# Altium schematic symbol library UVICHybridLibrary.SchLib: 132 symbols
Pins are listed as number, name and electrical type; pins without a type are passive.

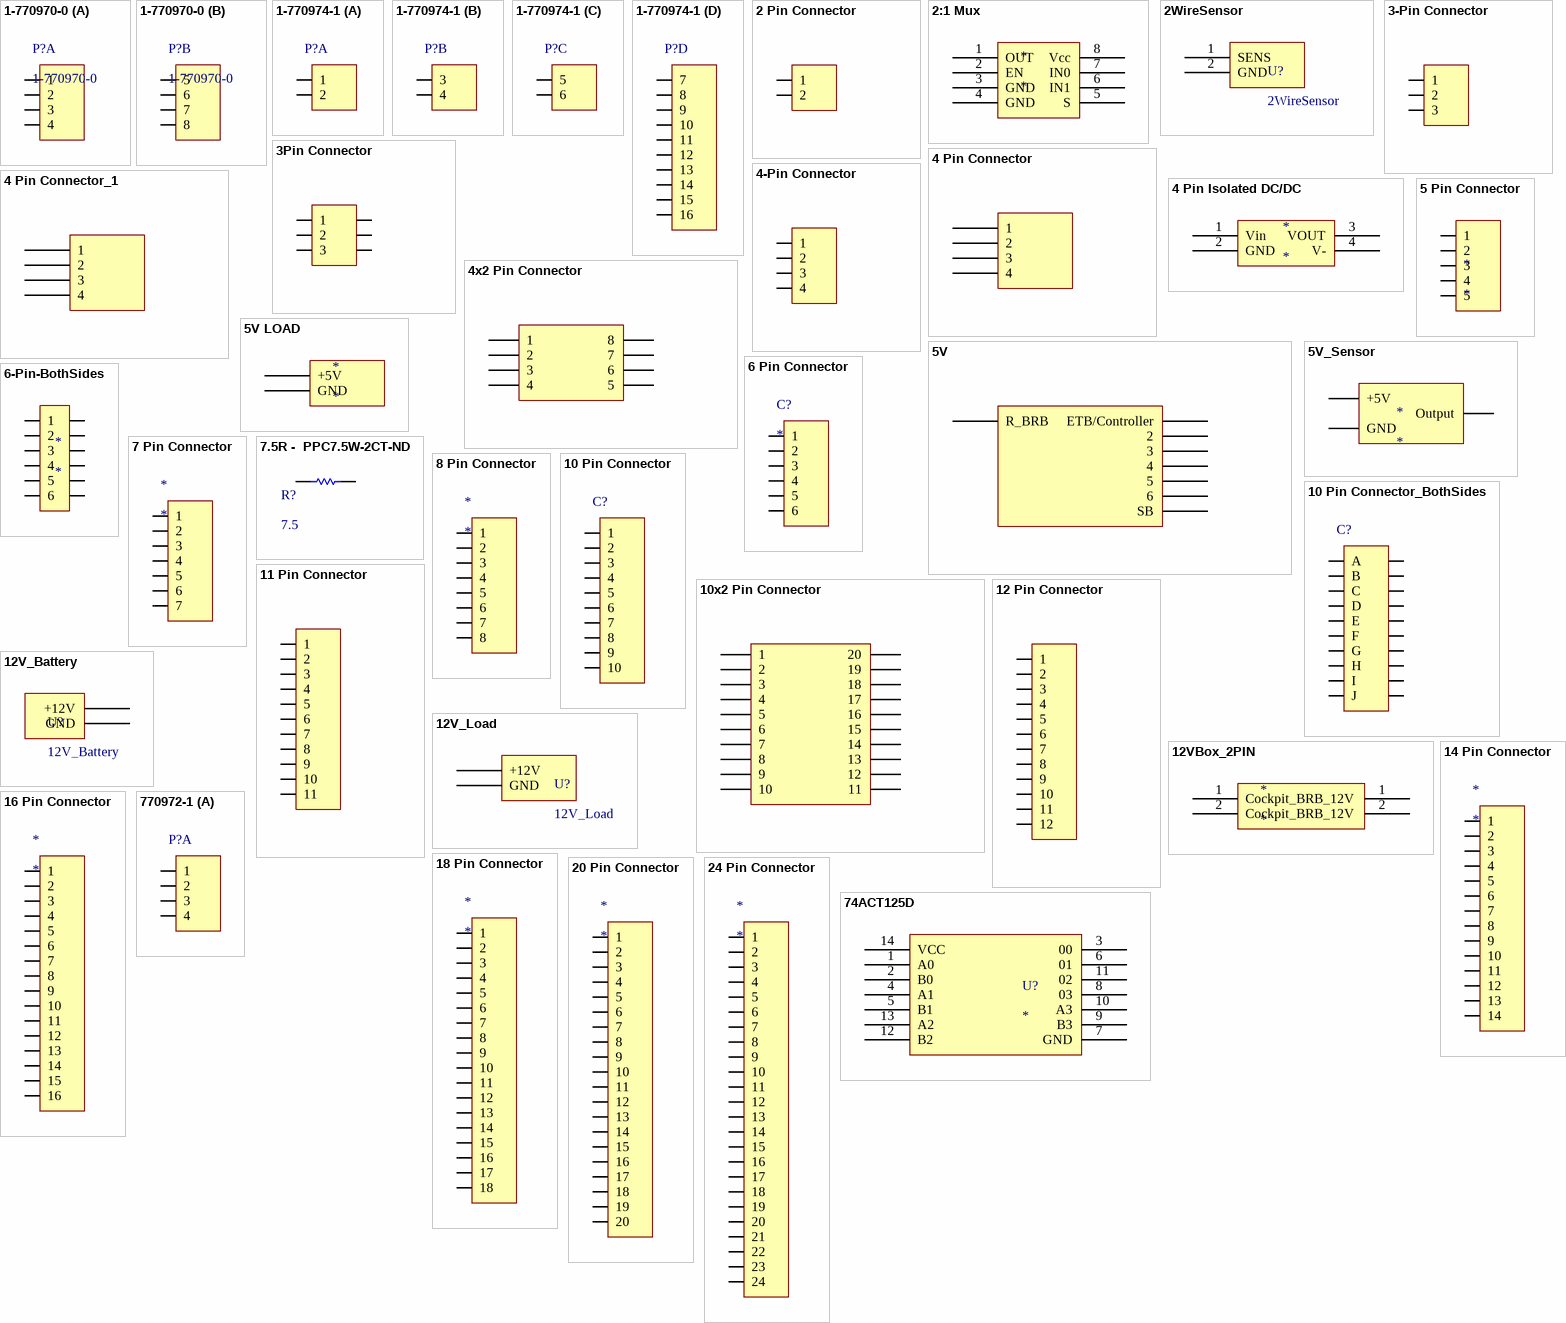
[diagram p0: symbols 1-770970-0 to 770972-1]

## 1-770970-0
designator P?
TE Connectivity Right Angle, 8-Pin, Mini-U MATE-N-LOK
part A pins: 1, 2, 3, 4
part B pins: 5, 6, 7, 8

## 1-770974-1
designator P?  (value not drawn)
TE, 16-Pin Right-Angle, Mini-U, MATE-N-LOK
part A pins: 1, 2
part B pins: 3, 4
part C pins: 5, 6
part D pins: 7, 8, 9, 10, 11, 12, 13, 14, 15, 16

## 2 Pin Connector
designator C?
ComponentLink1Description: Manufacturer Link
pins: 1, 2
1 alternate drawing of the same symbol

## 2:1 Mux
designator *
pins: 1 OUT, 2 EN, 3 GND, 4 GND, 5 S, 6 IN1, 7 IN0, 8 Vcc

## 2WireSensor
designator U?
pins: 1 SENS, 2 GND

## 3-Pin Connector
designator P?
pins: 0 1, 1 2, 2 3

## 3Pin Connector
designator C?
Capacitor; Published: 8-Jun-2000; LatestRevisionDate: 17-Jul-2002; LatestRevisionNote: Re-released for DXP Platform.; PackageReference: RAD-0.3; Publisher: Altium Limited; PackageDescription: Radial Cap, Thru-Hole; 2 Leads; 0.3 in Pin Spacing
footprint RAD-0.3 (Footprint not found)
simulation model CAP (Capacitor)
signal-integrity model Cap
pins: 1, 1, 2, 2, 3, 3

## 4 Pin Connector
designator C?
Capacitor; Published: 8-Jun-2000; LatestRevisionDate: 17-Jul-2002; LatestRevisionNote: Re-released for DXP Platform.; PackageReference: RAD-0.3; Publisher: Altium Limited; PackageDescription: Radial Cap, Thru-Hole; 2 Leads; 0.3 in Pin Spacing
footprint RAD-0.3 (Footprint not found)
simulation model CAP (Capacitor)
signal-integrity model Cap
pins: 1, 2, 3, 4

## 4 Pin Connector_1
designator C?
ETB Controller 200mil 4pin connector; Published: 8-Jun-2000; LatestRevisionDate: 17-Jul-2002; LatestRevisionNote: Re-released for DXP Platform.; PackageReference: RAD-0.3; Publisher: Altium Limited; PackageDescription: Radial Cap, Thru-Hole; 2 Leads; 0.3 in Pin Spacing
pins: 1, 2, 3, 4

## 4 Pin Isolated DC/DC
designator *
pins: 1 Vin, 2 GND, 3 VOUT, 4 V-

## 4-Pin Connector
designator P?
pins: 1, 2, 3, 4

## 4x2 Pin Connector
designator C?, comment Cap
Capacitor; Published: 8-Jun-2000; LatestRevisionDate: 17-Jul-2002; LatestRevisionNote: Re-released for DXP Platform.; PackageReference: RAD-0.3; Publisher: Altium Limited; PackageDescription: Radial Cap, Thru-Hole; 2 Leads; 0.3 in Pin Spacing
footprint RAD-0.3 (Radial Cap, Thru-Hole; 2 Leads; 0.3 in Pin Spacing)
simulation model CAP (Capacitor)
signal-integrity model Cap
pins: 1, 2, 3, 4, 5, 6, 7, 8

## 5 Pin Connector
designator *
pins: 1, 2, 3, 4, 5

## 5V
designator C?, comment Cap  value 100pF
Capacitor; Published: 8-Jun-2000; LatestRevisionDate: 17-Jul-2002; LatestRevisionNote: Re-released for DXP Platform.; PackageReference: RAD-0.3; Publisher: Altium Limited; PackageDescription: Radial Cap, Thru-Hole; 2 Leads; 0.3 in Pin Spacing
footprint RAD-0.3 (Radial Cap, Thru-Hole; 2 Leads; 0.3 in Pin Spacing)
simulation model CAP (Capacitor)
signal-integrity model Cap
pins: 0 R_BRB, 1 ETB/Controller, 2, 3, 4, 5, 6, 7 SB

## 5V LOAD
designator *
pins: 1 +5V, 2 GND

## 5V_Sensor
designator *
pins: 1 +5V, 2 GND, 3 Output

## 6 Pin Connector
designator C?
pins: 1, 2, 3, 4, 5, 6

## 6-Pin-BothSides
designator *
pins: 1, 2, 3, 4, 5, 6, 7, 8, 9, 10, 11, 12

## 7 Pin Connector
designator *
pins: 1, 2, 3, 4, 5, 6, 7

## 7.5R -  PPC7.5W-2CT-ND
designator R?, comment 7.5
footprint 7.5R - PPC7.5W-2CT-ND
pins: 1, 2

## 8 Pin Connector
designator *
pins: 1, 2, 3, 4, 5, 6, 7, 8

## 10 Pin Connector
designator C?  (value not drawn)
pins: 1, 2, 3, 4, 5, 6, 7, 8, 9, 10

## 10 Pin Connector_BothSides
designator C?  (value not drawn)
pins: 1 A, 1, 2 B, 2, 3 C, 3, 4 D, 4, 5 E, 5, 6 F, 6, 7 G, 7, 8 H, 8, 9 I, 9, 10 J, 10

## 10x2 Pin Connector
designator C?, comment Cap  value 100pF
Capacitor; Published: 8-Jun-2000; LatestRevisionDate: 17-Jul-2002; LatestRevisionNote: Re-released for DXP Platform.; PackageReference: RAD-0.3; Publisher: Altium Limited; PackageDescription: Radial Cap, Thru-Hole; 2 Leads; 0.3 in Pin Spacing
footprint RAD-0.3 (Radial Cap, Thru-Hole; 2 Leads; 0.3 in Pin Spacing)
simulation model CAP (Capacitor)
signal-integrity model Cap
pins: 1, 2, 3, 4, 5, 6, 7, 8, 9, 10, 11, 12, 13, 14, 15, 16, 17, 18, 19, 20

## 11 Pin Connector
designator C?
ComponentLink1Description: Manufacturer Link; ComponentLink2Description: Datasheet
pins: 1, 2, 3, 4, 5, 6, 7, 8, 9, 10, 11
1 alternate drawing of the same symbol

## 12 Pin Connector
designator P?
pins: ?1 1, ?2 2, ?3 3, ?4 4, ?5 5, ?6 6, ?7 7, ?8 8, ?9 9, ?10 10, ?11 11, ?12 12

## 12V_Battery
designator U?
pins: 1 +12V, 2 GND

## 12V_Load
designator U?
pins: 1 +12V, 2 GND

## 12VBox_2PIN
designator *
pins: 1 Cockpit_BRB_12V, 1 Cockpit_BRB_12V, 2 Cockpit_BRB_12V, 2 NC

## 14 Pin Connector
designator *
pins: 1, 2, 3, 4, 5, 6, 7, 8, 9, 10, 11, 12, 13, 14

## 16 Pin Connector
designator *
pins: 1, 2, 3, 4, 5, 6, 7, 8, 9, 10, 11, 12, 13, 14, 15, 16

## 18 Pin Connector
designator *
pins: 1, 2, 3, 4, 5, 6, 7, 8, 9, 10, 11, 12, 13, 14, 15, 16, 17, 18

## 20 Pin Connector
designator *
pins: 1, 2, 3, 4, 5, 6, 7, 8, 9, 10, 11, 12, 13, 14, 15, 16, 17, 18, 19, 20

## 24 Pin Connector
designator *
pins: 1, 2, 3, 4, 5, 6, 7, 8, 9, 10, 11, 12, 13, 14, 15, 16, 17, 18, 19, 20, 21, 22, 23, 24

## 74ACT125D
designator U?
pins: 1 A0, 2 B0, 3 00, 4 A1, 5 B1, 6 01, 7 GND, 8 03, 9 B3, 10 A3, 11 02, 12 B2, 13 A2, 14 VCC

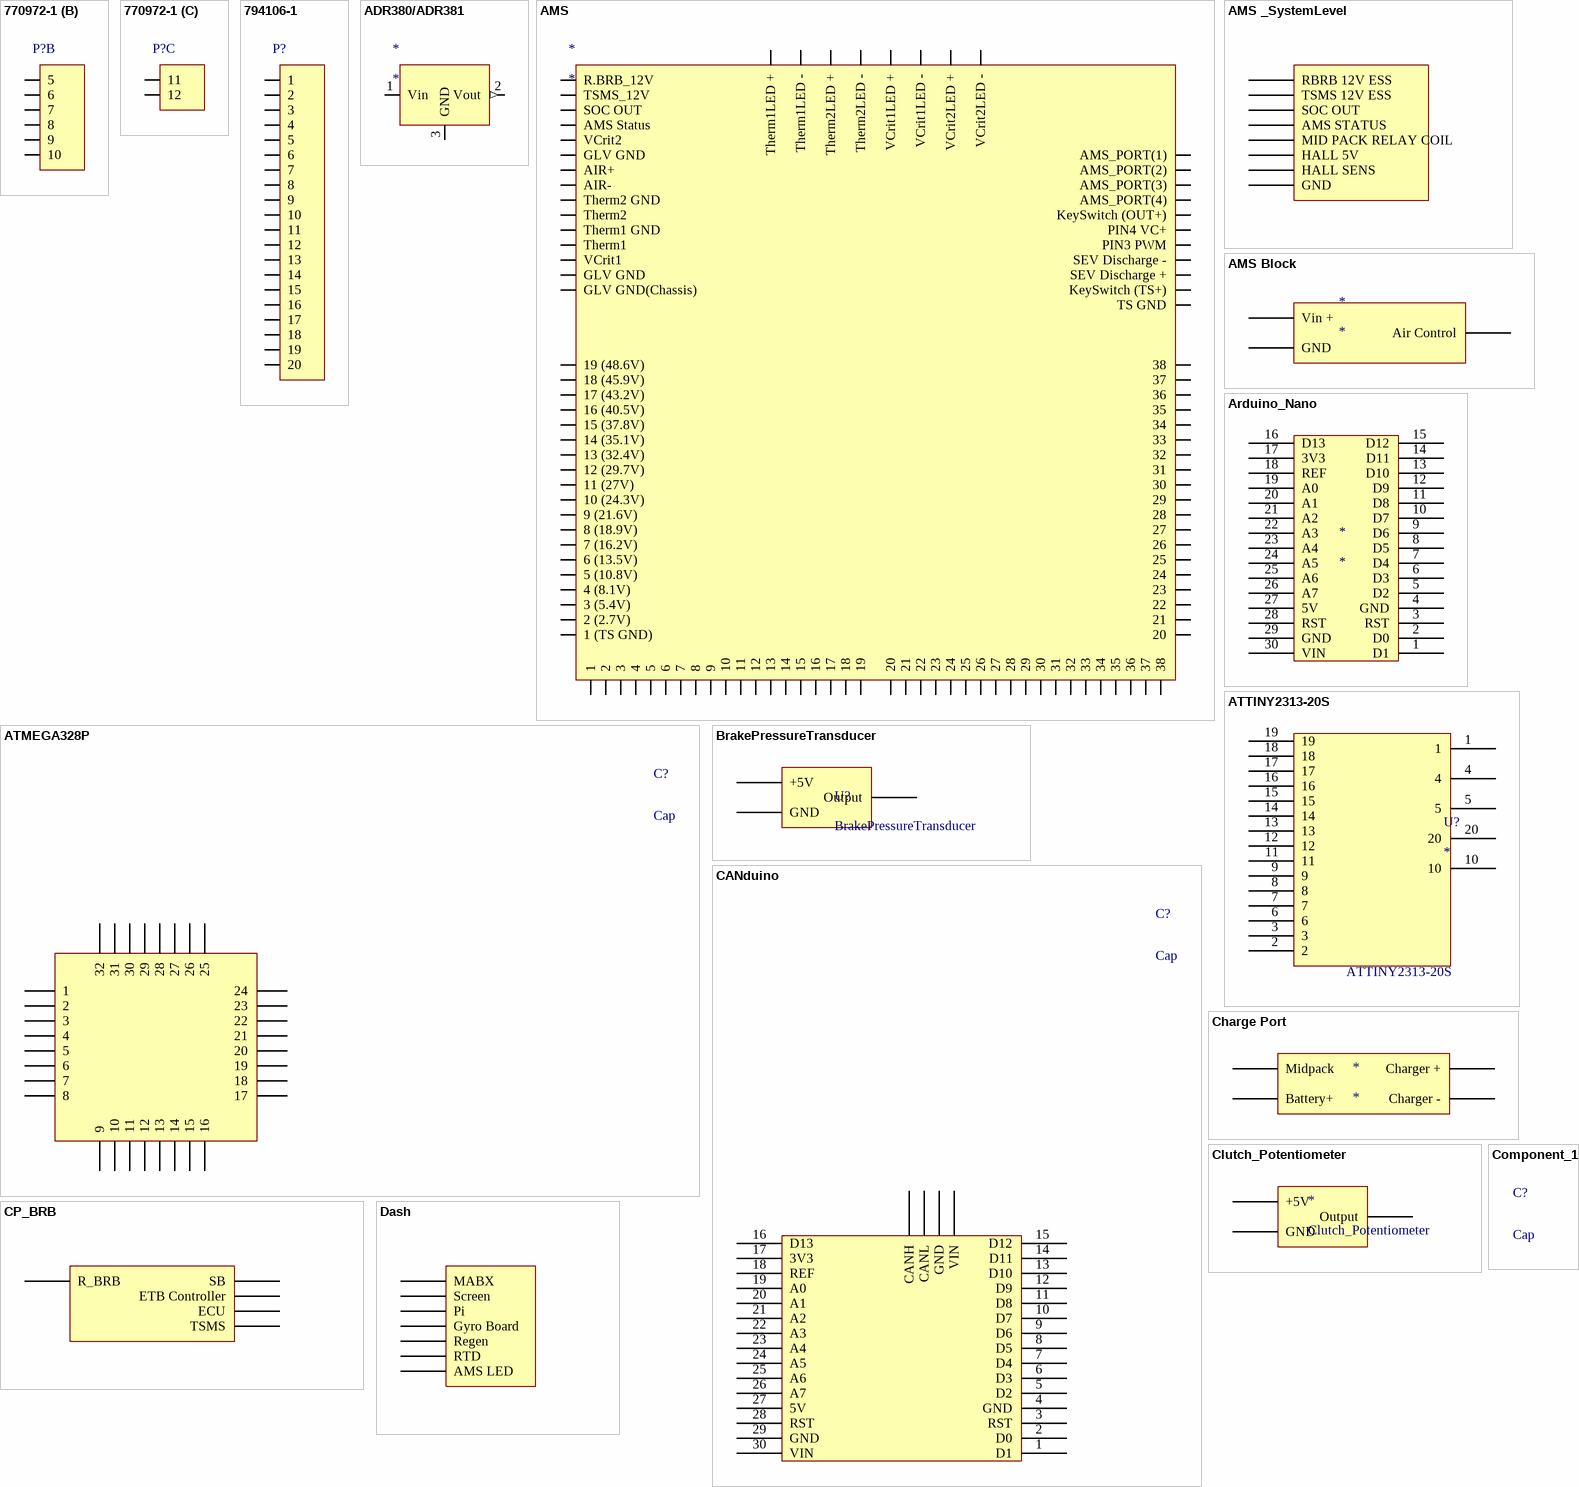
[diagram p1: symbols 770972-1 to Dash]

## 770972-1
designator P?  (value not drawn)
TE Connectivity Right Angle Mini-U MATE-N-LOK
part A pins: 1, 2, 3, 4
part B pins: 5, 6, 7, 8, 9, 10
part C pins: 11, 12

## 794106-1
designator P?  (value not drawn)
TE Connectivity Right Angle Mini-U MATE-N-LOK
pins: 1, 2, 3, 4, 5, 6, 7, 8, 9, 10, 11, 12, 13, 14, 15, 16, 17, 18, 19, 20

## ADR380/ADR381
designator *
pins: 1 Vin (power), 2 Vout (out), 3 GND (power)

## AMS
designator *
pins: 1 1 (TS GND), 2 2 (2.7V), 3 3 (5.4V), 4 4 (8.1V), 5 5 (10.8V), 6 6 (13.5V), 7 7 (16.2V), 8 8 (18.9V), 9 9 (21.6V), 10 10 (24.3V), 11 11 (27V), 12 12 (29.7V), 13 13 (32.4V), 14 14 (35.1V), 15 15 (37.8V), 16 16 (40.5V), 17 17 (43.2V), 18 18 (45.9V), 19 19 (48.6V), 20, 21, 22, 23, 24, 25, 26, 27, 28, 29, 30, 31, 32, 33, 34, 35, 36, 37, 38, 39 SEV Discharge +, 40 SEV Discharge -, 41 PIN4 VC+, ?1 1, ?2 2, ?3 3, ?4 4, ?5 5, ?6 6, ?7 7, ?8 8, ?9 9, ?10 10, ?11 11, ?12 12, ?13 13, ?14 14, ?15 15, ?16 16, ?17 17, ?18 18, ?19 19, ?20 20, ?21 21, ?22 22, ?23 23, ?24 24, ?25 25, ?26 26, ?27 27, ?28 28, ?29 29, ?30 30, ?31 31, ?32 32, ?33 33, ?34 34, ?35 35, ?36 36, ?37 37, ?38 38, ?39 R.BRB_12V, ?40 TSMS_12V, ?41 VCrit1, ?42 VCrit2, ?43 Therm1, ?44 Therm2, ?45 AIR-, ?46 AIR+, ?47 Therm1 GND, ?48 Therm2 GND, ?49 GLV GND, ?50 KeySwitch (OUT+), ?51 PIN3 PWM, ?52 SOC OUT, ?53 GLV GND, ?54 GLV GND(Chassis), ?55 AMS_PORT(1), ?56 AMS_PORT(2), ?57 AMS_PORT(3), ?58 AMS_PORT(4), ?59 Therm1LED +, ?60 Therm1LED -, ?61 Therm2LED +, ?62 Therm2LED -, ?63 VCrit1LED +, ?64 VCrit1LED -, ?65 VCrit2LED +, ?66 VCrit2LED -, ?67 AMS Status, ?68 TS GND, ?69 KeySwitch (TS+)

## AMS _SystemLevel
designator C?
Published: 8-Jun-2000; LatestRevisionDate: 17-Jul-2002; LatestRevisionNote: Re-released for DXP Platform.; PackageReference: RAD-0.3; Publisher: Altium Limited
pins: 0 AMS STATUS, 1 MID PACK RELAY COIL, 1 HALL 5V, 2 SOC OUT, 3 RBRB 12V ESS, 4 HALL SENS, 5 GND, ?1 TSMS 12V ESS

## AMS Block
designator *
pins: 23 Vin +, 24 GND, 25 Air Control

## Arduino_Nano
designator *
pins: 1 D1, 2 D0, 3 RST, 4 GND, 5 D2, 6 D3, 7 D4, 8 D5, 9 D6, 10 D7, 11 D8, 12 D9, 13 D10, 14 D11, 15 D12, 16 D13, 17 3V3, 18 REF, 19 A0, 20 A1, 21 A2, 22 A3, 23 A4, 24 A5, 25 A6, 26 A7, 27 5V, 28 RST, 29 GND, 30 VIN

## ATMEGA328P
designator C?, comment Cap
Capacitor; Published: 8-Jun-2000; LatestRevisionDate: 17-Jul-2002; LatestRevisionNote: Re-released for DXP Platform.; PackageReference: RAD-0.3; Publisher: Altium Limited; PackageDescription: Radial Cap, Thru-Hole; 2 Leads; 0.3 in Pin Spacing
footprint RAD-0.3 (Radial Cap, Thru-Hole; 2 Leads; 0.3 in Pin Spacing)
simulation model CAP (Capacitor)
signal-integrity model Cap
pins: 1, 2, 3, 4, 5, 6, 7, 8, 9, 10, 11, 12, 13, 14, 15, 16, 17, 18, 19, 20, 21, 22, 23, 24, 25, 26, 27, 28, 29, 30, 31, 32

## ATTINY2313-20S
designator U?
ATTINY
pins: 1, 2, 3, 4, 5, 6, 7, 8, 9, 10, 11, 12, 13, 14, 15, 16, 17, 18, 19, 20

## BrakePressureTransducer
designator U?
pins: 1 +5V, 2 GND, 3 Output

## CANduino
designator C?, comment Cap
Capacitor; Published: 8-Jun-2000; LatestRevisionDate: 17-Jul-2002; LatestRevisionNote: Re-released for DXP Platform.; PackageReference: RAD-0.3; Publisher: Altium Limited; PackageDescription: Radial Cap, Thru-Hole; 2 Leads; 0.3 in Pin Spacing
footprint RAD-0.3 (Radial Cap, Thru-Hole; 2 Leads; 0.3 in Pin Spacing)
simulation model CAP (Capacitor)
signal-integrity model Cap
pins: 1 D1, 2 D0, 3 RST, 4 GND, 5 D2, 6 D3, 7 D4, 8 D5, 9 D6, 10 D7, 11 D8, 12 D9, 13 D10, 14 D11, 15 D12, 16 D13, 17 3V3, 18 REF, 19 A0, 20 A1, 21 A2, 22 A3, 23 A4, 24 A5, 25 A6, 26 A7, 27 5V, 28 RST, 29 GND, 30 VIN, 31 VIN, 32 GND, 33 CANL, 34 CANH

## Charge Port
designator *
pins: 5 Midpack, 5 Battery+, 6 Charger +, 7 Charger -

## Clutch_Potentiometer
designator *
pins: 1 +5V, 2 GND, 3 Output

## Component_1
designator C?, comment Cap
Capacitor; Published: 8-Jun-2000; LatestRevisionDate: 17-Jul-2002; LatestRevisionNote: Re-released for DXP Platform.; PackageReference: RAD-0.3; Publisher: Altium Limited; PackageDescription: Radial Cap, Thru-Hole; 2 Leads; 0.3 in Pin Spacing
footprint RAD-0.3 (Radial Cap, Thru-Hole; 2 Leads; 0.3 in Pin Spacing)
simulation model CAP (Capacitor)
signal-integrity model Cap

## CP_BRB
designator C?, comment Cap  value 100pF
Capacitor; Published: 8-Jun-2000; LatestRevisionDate: 17-Jul-2002; LatestRevisionNote: Re-released for DXP Platform.; PackageReference: RAD-0.3; Publisher: Altium Limited; PackageDescription: Radial Cap, Thru-Hole; 2 Leads; 0.3 in Pin Spacing
footprint RAD-0.3 (Radial Cap, Thru-Hole; 2 Leads; 0.3 in Pin Spacing)
simulation model CAP (Capacitor)
signal-integrity model Cap
pins: 0 R_BRB, 1 SB, 2 ECU, 3 TSMS, 4 ETB Controller

## Dash
designator C?, comment Cap  value 100pF
Capacitor; Published: 8-Jun-2000; LatestRevisionDate: 17-Jul-2002; LatestRevisionNote: Re-released for DXP Platform.; PackageReference: RAD-0.3; Publisher: Altium Limited; PackageDescription: Radial Cap, Thru-Hole; 2 Leads; 0.3 in Pin Spacing
footprint RAD-0.3 (Radial Cap, Thru-Hole; 2 Leads; 0.3 in Pin Spacing)
simulation model CAP (Capacitor)
signal-integrity model Cap
pins: 0 MABX, 2 Pi, 3 Gyro Board, 4 Regen, 5 RTD, 6 AMS LED, ?1 Screen

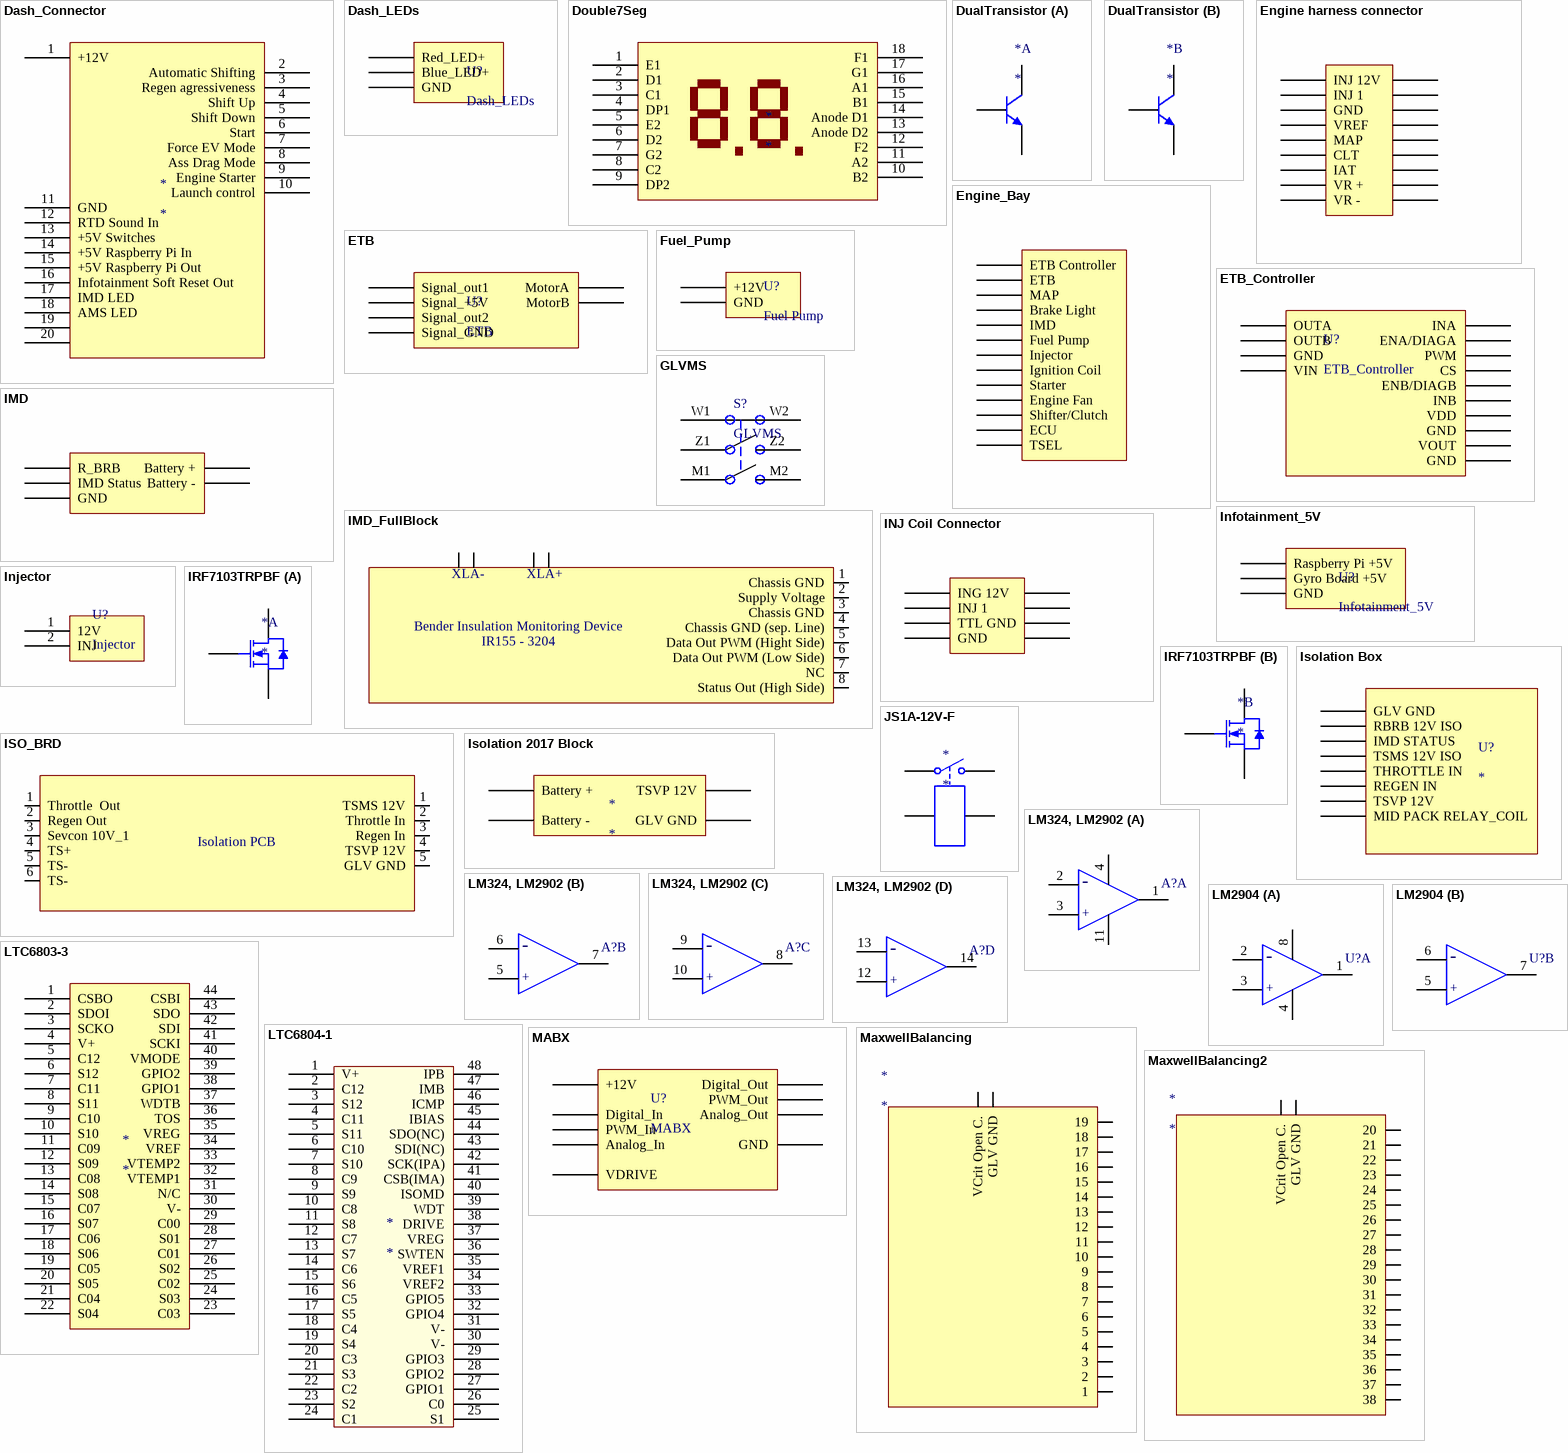
[diagram p2: symbols Dash_Connector to MaxwellBalancing2]

## Dash_Connector
designator *
pins: 1 +12V, 2 Automatic Shifting, 3 Regen agressiveness, 4 Shift Up, 5 Shift Down, 6 Start, 7 Force EV Mode, 8 Ass Drag Mode, 9 Engine Starter, 10 Launch control, 11 GND, 12 RTD Sound In, 13 +5V Switches, 14 +5V Raspberry Pi In, 15 +5V Raspberry Pi Out, 16 Infotainment Soft Reset Out, 17 IMD LED, 18 AMS LED, 19, 20

## Dash_LEDs
designator U?
pins: 3 Red_LED+, 4 Blue_LED+, 5 GND

## Double7Seg
designator *
pins: 1 E1, 2 D1, 3 C1, 4 DP1, 5 E2, 6 D2, 7 G2, 8 C2, 9 DP2, 10 B2, 11 A2, 12 F2, 13 Anode D2, 14 Anode D1, 15 B1, 16 A1, 17 G1, 18 F1

## DualTransistor
designator *
part A pins: B1, C1, E1
part B pins: B2, C2, E2

## Engine harness connector
designator C?, comment Cap  value 100pF
Capacitor; Published: 8-Jun-2000; LatestRevisionDate: 17-Jul-2002; LatestRevisionNote: Re-released for DXP Platform.; PackageReference: RAD-0.3; Publisher: Altium Limited; PackageDescription: Radial Cap, Thru-Hole; 2 Leads; 0.3 in Pin Spacing
footprint RAD-0.3 (Radial Cap, Thru-Hole; 2 Leads; 0.3 in Pin Spacing)
simulation model CAP (Capacitor)
signal-integrity model Cap
pins: 1 VR +, 2 VR -, 3 CLT, 4 IAT, 5 MAP, 7 VREF, 8 INJ 1, 9, 10, 12, 13, 14, 17, 18, 22 INJ 12V, 24, 25 GND, 26 GND

## Engine_Bay
designator C?, comment Cap  value 100pF
Capacitor; Published: 8-Jun-2000; LatestRevisionDate: 17-Jul-2002; LatestRevisionNote: Re-released for DXP Platform.; PackageReference: RAD-0.3; Publisher: Altium Limited; PackageDescription: Radial Cap, Thru-Hole; 2 Leads; 0.3 in Pin Spacing
footprint RAD-0.3 (Radial Cap, Thru-Hole; 2 Leads; 0.3 in Pin Spacing)
simulation model CAP (Capacitor)
signal-integrity model Cap
pins: 0 ETB Controller, 1 ETB, 2 MAP, 3 Brake Light, 4 IMD, 5 Fuel Pump, 6 Injector, 7 Ignition Coil, 8 Starter, 9 Engine Fan, 10 Shifter/Clutch, 11 ECU, 12 TSEL

## ETB
designator U?
pins: 1 Signal_out1, 2 Signal_+5V, 3 Signal_out2, 4 Signal_GND, 5 MotorA, 6 MotorB

## ETB_Controller
designator U?
pins: 1 OUTA, 2 OUTB, 3 GND, 4 VIN, 5 INA, 6 ENA/DIAGA, 7 PWM, 8 CS, 9 ENB/DIAGB, 10 INB, 11 VDD, 12 GND, 13 VOUT, 14 GND

## Fuel_Pump
designator U?, comment Fuel Pump
pins: 1 +12V, 2 GND

## GLVMS
designator S?
pins: M1 5, M2 3, W1 3, W2 3, Z1, Z2 3

## IMD
designator C?
Capacitor; Published: 8-Jun-2000; LatestRevisionDate: 17-Jul-2002; LatestRevisionNote: Re-released for DXP Platform.; PackageReference: RAD-0.3; Publisher: Altium Limited; PackageDescription: Radial Cap, Thru-Hole; 2 Leads; 0.3 in Pin Spacing
footprint RAD-0.3 (Radial Cap, Thru-Hole; 2 Leads; 0.3 in Pin Spacing)
simulation model CAP (Capacitor)
signal-integrity model Cap
pins: 0 R_BRB, 1 Battery +, 2 Battery -, 3 GND, 4 IMD Status

## IMD_FullBlock
designator IMD_FullBlock
Code_IEC: 1005; Code_JEITA: 0402
pins: 1 Chassis GND, 2 Supply Voltage, 3 Chassis GND, 4 Chassis GND (sep. Line), 5 Data Out PWM (Hight Side), 6 Data Out PWM (Low Side), 7 NC, 8 Status Out (High Side), 9, 10, 11, 12
text: XLA-; XLA+; Bender Insulation Monitoring Device; IR155 - 3204

## Infotainment_5V
designator U?
pins: 1 Raspberry Pi +5V, 2 Gyro Board +5V, 3 GND

## INJ Coil Connector
designator C?
Capacitor; Published: 8-Jun-2000; LatestRevisionDate: 17-Jul-2002; LatestRevisionNote: Re-released for DXP Platform.; PackageReference: RAD-0.3; Publisher: Altium Limited; PackageDescription: Radial Cap, Thru-Hole; 2 Leads; 0.3 in Pin Spacing
footprint RAD-0.3 (Radial Cap, Thru-Hole; 2 Leads; 0.3 in Pin Spacing)
simulation model CAP (Capacitor)
signal-integrity model Cap
pins: 0 ING 12V, 1 INJ 1, 3 GND, 4, 5, 7, 8 TTL GND, 9 TTL GND

## Injector
designator U?
pins: 1 12V, 2 INJ

## IRF7103TRPBF
designator *
part A pins: 1 S1, 2 G1, 6 D1 "Pin 7 & 8 on part.  Pin 6 because of pad sharing."
part B pins: 3 S2, 4 G2, 5 D2 "Pin 7 & 8 on part.  Pin 6 because of pad sharing."

## ISO_BRD
designator ISO BRD
Code_IEC: 1005; Code_JEITA: 0402
pins: 1 TSMS 12V, 1 Throttle  Out, 2 Throttle In, 2 Regen Out, 3 Regen In, 3 Sevcon 10V_1, 4 TSVP 12V, 4 TS+, 5 TS-, 5 GLV GND, 6 TS-
text: Isolation PCB

## Isolation 2017 Block
designator *
pins: 19 Battery -, 20 Battery +, 21 GLV GND, 22 TSVP 12V

## Isolation Box
designator U?
pins: ?1 GLV GND, ?2 RBRB 12V ISO, ?3 TSMS 12V ISO, ?4 THROTTLE IN, ?5 TSVP 12V, ?6 MID PACK RELAY_COIL, ?7 IMD STATUS, ?8 REGEN IN

## JS1A-12V-F
designator *
pins: 1, 2, 3, 4

## LM324, LM2902
designator A?  (value not drawn)
Fairchild 4-Ch. Op-Amp
part A pins: 1 Out, 2 -, 3 +, 4 Vcc (power), 11 GND (power)
part B pins: 5 +, 6 -, 7 Out
part C pins: 8 Out, 9 -, 10 +
part D pins: 12 +, 13 -, 14 Out

## LM2904
designator U?  (value not drawn)
Fairchild  2Ch. Op-Amp
part A pins: 1 Out, 2 +, 3 +, 4, 8
part B pins: 5 +, 6 -, 7 Out

## LTC6803-3
designator *
pins: 1 CSBO, 2 SDOI, 3 SCKO, 4 V+, 5 C12, 6 S12, 7 C11, 8 S11, 9 C10, 10 S10, 11 C09, 12 S09, 13 C08, 14 S08, 15 C07, 16 S07, 17 C06, 18 S06, 19 C05, 20 S05, 21 C04, 22 S04, 23 C03, 24 S03, 25 C02, 26 S02, 27 C01, 28 S01, 29 C00, 30 V-, 31 N/C, 32 VTEMP1, 33 VTEMP2, 34 VREF, 35 VREG, 36 TOS, 37 WDTB, 38 GPIO1, 39 GPIO2, 40 VMODE, 41 SCKI, 42 SDI, 43 SDO, 44 CSBI

## LTC6804-1
designator *
pins: 1 V+, 2 C12, 3 S12, 4 C11, 5 S11, 6 C10, 7 S10, 8 C9, 9 S9, 10 C8, 11 S8, 12 C7, 13 S7, 14 C6, 15 S6, 16 C5, 17 S5, 18 C4, 19 S4, 20 C3, 21 S3, 22 C2, 23 S2, 24 C1, 25 S1, 26 C0, 27 GPIO1, 28 GPIO2, 29 GPIO3, 30 V-, 31 V-, 32 GPIO4, 33 GPIO5, 34 VREF2, 35 VREF1, 36 SWTEN, 37 VREG, 38 DRIVE, 39 WDT, 40 ISOMD, 41 CSB(IMA), 42 SCK(IPA), 43 SDI(NC), 44 SDO(NC), 45 IBIAS, 46 ICMP, 47 IMB, 48 IPB

## MABX
designator U?
pins: 1 +12V, 2 GND, 3 Digital_In, 3 PWM_In, 4 Analog_In, 5 Digital_Out, 5 Analog_Out, 5 PWM_Out, 6 VDRIVE

## MaxwellBalancing
designator *
pins: ?1 1, ?2 2, ?3 3, ?4 4, ?5 5, ?6 6, ?7 7, ?8 8, ?9 9, ?10 10, ?11 11, ?12 12, ?13 13, ?14 14, ?15 15, ?16 16, ?17 17, ?18 18, ?19 19, ?20 VCrit Open C., ?21 GLV GND

## MaxwellBalancing2
designator *
pins: ?1 VCrit Open C., ?2 GLV GND, ?3 20, ?4 21, ?5 22, ?6 23, ?7 24, ?8 25, ?9 26, ?10 27, ?11 28, ?12 29, ?13 30, ?14 31, ?15 32, ?16 33, ?17 34, ?18 35, ?19 36, ?20 37, ?21 38

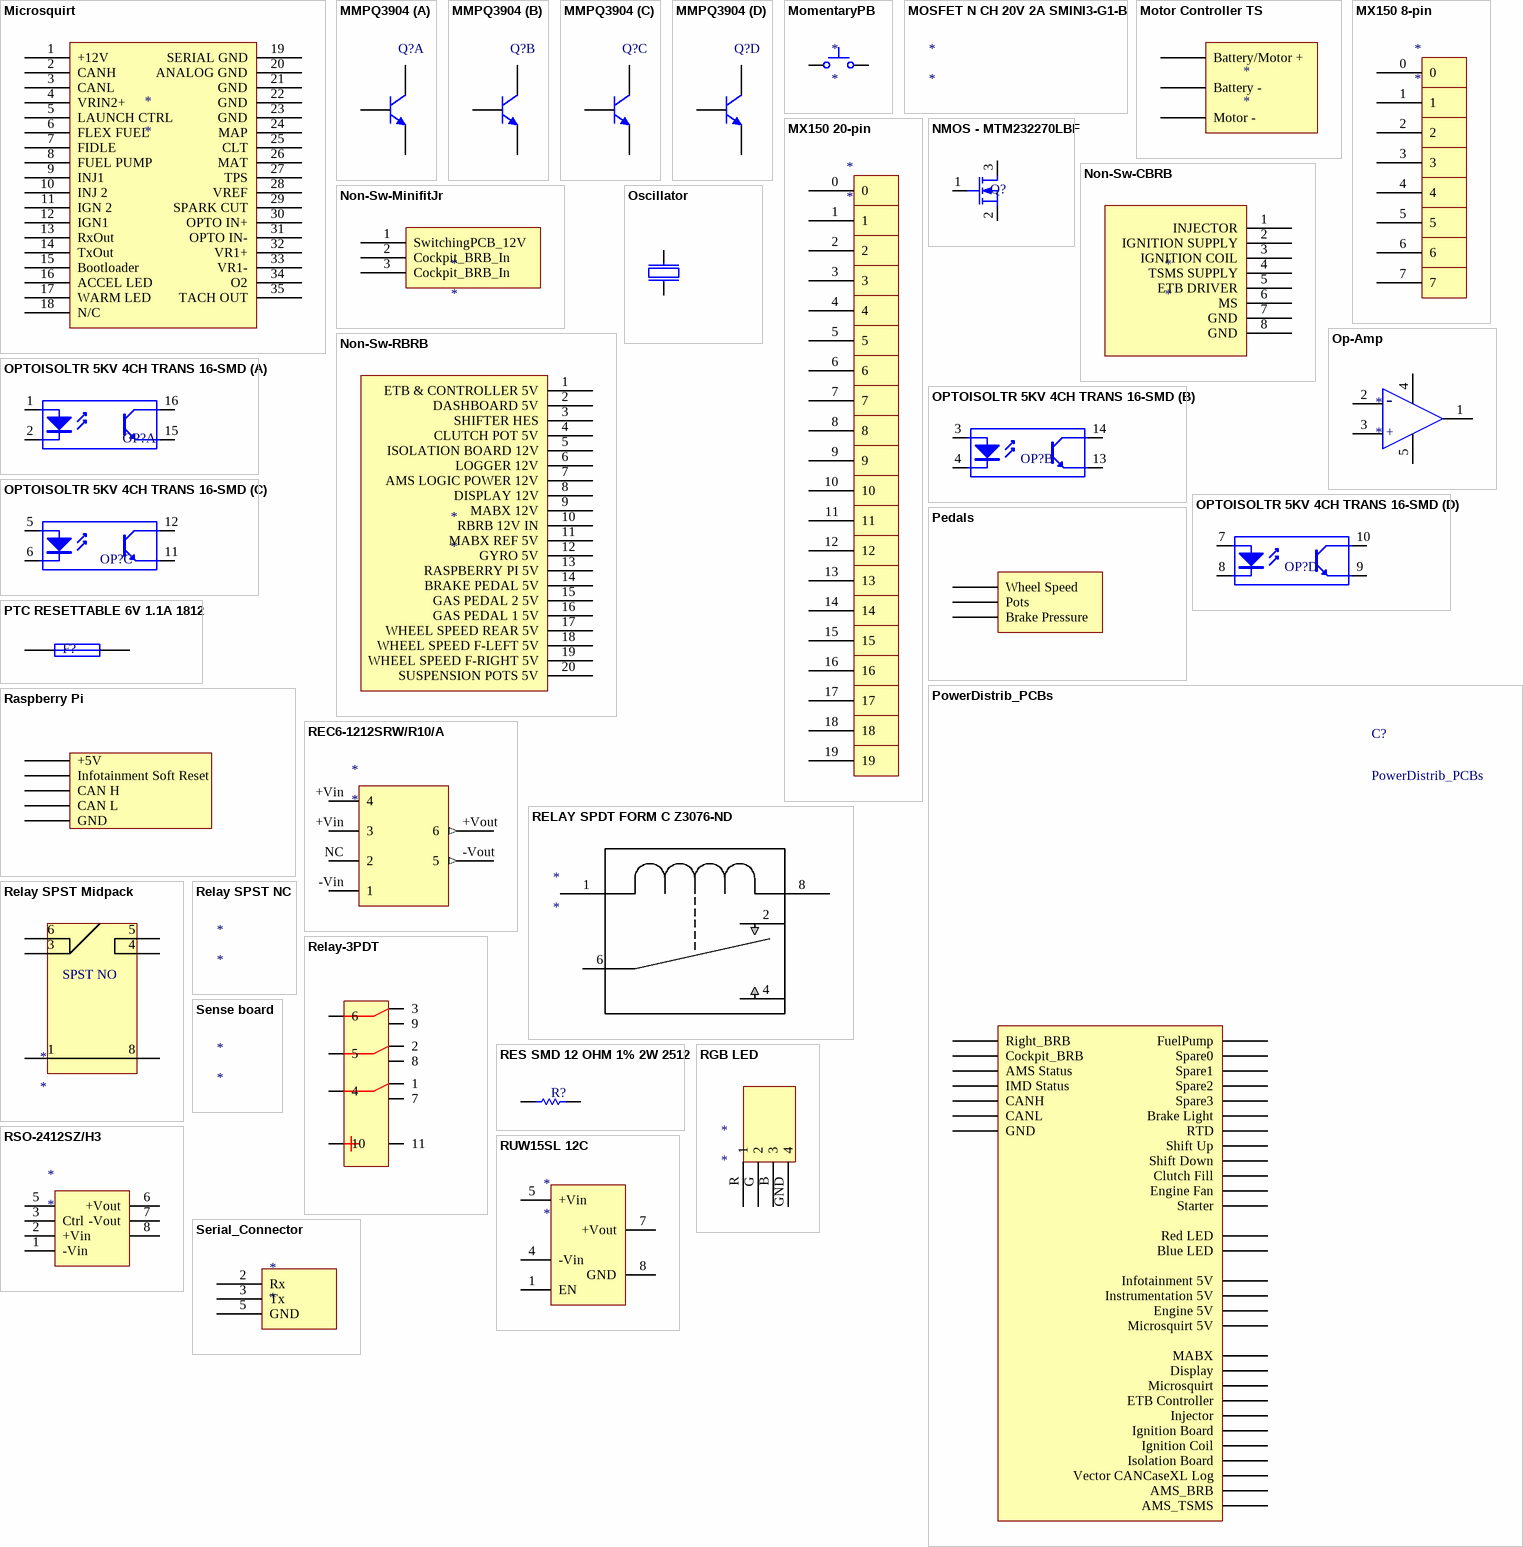
[diagram p3: symbols Microsquirt to Serial_Connector]

## Microsquirt
designator *
pins: 1 +12V, 2 CANH, 3 CANL, 4 VRIN2+, 5 LAUNCH CTRL, 6 FLEX FUEL, 7 FIDLE, 8 FUEL PUMP, 9 INJ1, 10 INJ 2, 11 IGN 2, 12 IGN1, 13 RxOut, 14 TxOut, 15 Bootloader, 16 ACCEL LED, 17 WARM LED, 18 N/C, 19 SERIAL GND, 20 ANALOG GND, 21 GND, 22 GND, 23 GND, 24 MAP, 25 CLT, 26 MAT, 27 TPS, 28 VREF, 29 SPARK CUT, 30 OPTO IN+, 31 OPTO IN-, 32 VR1+, 33 VR1-, 34 O2, 35 TACH OUT

## MMPQ3904
designator Q?  (value not drawn)
part A pins: B1, C1, E1
part B pins: B2, C2, E2
part C pins: B3, C3, E3
part D pins: B4, C4, E4

## MomentaryPB
designator *
pins: 1, 2

## MOSFET N CH 20V 2A SMINI3-G1-B
designator *

## Motor Controller TS
designator *
pins: 16 Battery/Motor +, 17 Battery -, 18 Motor -

## MX150 8-pin
designator *
pins: 0, 1, 2, 3, 4, 5, 6, 7

## MX150 20-pin
designator *
pins: 0, 1, 2, 3, 4, 5, 6, 7, 8, 9, 10, 11, 12, 13, 14, 15, 16, 17, 18, 19

## NMOS - MTM232270LBF
designator Q?  (value not drawn)
footprint MTM232270LBF (MOSFET N CH 20V 2A SMINI3-G1-B)
pins: 1, 2, 3

## Non-Sw-CBRB
designator *
pins: 1 INJECTOR, 2 IGNITION SUPPLY, 3 IGNITION COIL, 4 TSMS SUPPLY, 5 ETB DRIVER, 6 MS, 7 GND, 8 GND

## Non-Sw-MinifitJr
designator *
pins: 1 SwitchingPCB_12V, 2 Cockpit_BRB_In, 3 Cockpit_BRB_In

## Non-Sw-RBRB
designator *
pins: 1 ETB & CONTROLLER 5V, 2 DASHBOARD 5V, 3 SHIFTER HES, 4 CLUTCH POT 5V, 5 ISOLATION BOARD 12V, 6 LOGGER 12V, 7 AMS LOGIC POWER 12V, 8 DISPLAY 12V, 9 MABX 12V, 10 RBRB 12V IN, 11 MABX REF 5V, 12 GYRO 5V, 13 RASPBERRY PI 5V, 14 BRAKE PEDAL 5V, 15 GAS PEDAL 2 5V, 16 GAS PEDAL 1 5V, 17 WHEEL SPEED REAR 5V, 18 WHEEL SPEED F-LEFT 5V, 19 WHEEL SPEED F-RIGHT 5V, 20 SUSPENSION POTS 5V

## Op-Amp
designator *
pins: 1 Out, 2 -, 3 +, 4 Vcc (power), 5 (power)

## OPTOISOLTR 5KV 4CH TRANS 16-SMD
designator OP?  (value not drawn)
footprint LTV-847S_ (4CH OPTO L)
part A pins: 1 "Anode", 2 "Cathode", 15 "Emitter", 16 "Collector"
part B pins: 3 "Anode", 4 "Cathode", 13 "Emitter", 14 "Collector"
part C pins: 5 "Anode", 6 "Cathode", 11 "Emitter", 12 "Collector"
part D pins: 7 "Anode", 8 "Cathode", 9 "Emitter", 10 "Collector"

## Oscillator
designator C?, comment Cap
Capacitor; Published: 8-Jun-2000; LatestRevisionDate: 17-Jul-2002; LatestRevisionNote: Re-released for DXP Platform.; PackageReference: RAD-0.3; Publisher: Altium Limited; PackageDescription: Radial Cap, Thru-Hole; 2 Leads; 0.3 in Pin Spacing
footprint RAD-0.3 (Radial Cap, Thru-Hole; 2 Leads; 0.3 in Pin Spacing)
simulation model CAP (Capacitor)
signal-integrity model Cap

## Pedals
designator C?, comment Cap  value 100pF
Capacitor; Published: 8-Jun-2000; LatestRevisionDate: 17-Jul-2002; LatestRevisionNote: Re-released for DXP Platform.; PackageReference: RAD-0.3; Publisher: Altium Limited; PackageDescription: Radial Cap, Thru-Hole; 2 Leads; 0.3 in Pin Spacing
footprint RAD-0.3 (Radial Cap, Thru-Hole; 2 Leads; 0.3 in Pin Spacing)
simulation model CAP (Capacitor)
signal-integrity model Cap
pins: 0 Wheel Speed, 1 Pots, 2 Brake Pressure

## PowerDistrib_PCBs
designator C?
Published: 8-Jun-2000; LatestRevisionDate: 17-Jul-2002; LatestRevisionNote: Re-released for DXP Platform.; PackageReference: RAD-0.3; Publisher: Altium Limited
pins: 0 Right_BRB, 1 Cockpit_BRB, 2 GND, 2 CANH, 2 CANL, 3 AMS Status, 3 IMD Status, 4 FuelPump, 5 Spare0, 6 Spare1, 7 Spare2, 8 Spare3, 9 Brake Light, 11 RTD, 12 Shift Up, 13 Shift Down, 14 Clutch Fill, 15 Engine Fan, 16 Starter, 16 Red LED, 16 Blue LED, 17 Infotainment 5V, 18 Instrumentation 5V, 19 Engine 5V, 20 Microsquirt 5V, 21 MABX, 22 Display, 23 Microsquirt, 24 ETB Controller, 25 Injector, 26 Ignition Board, 27 Ignition Coil, 27 AMS_BRB, 27 Isolation Board, 27 Vector CANCaseXL Log, 27 AMS_TSMS

## PTC RESETTABLE 6V 1.1A 1812
designator F?  (value not drawn)
footprint PTC RESETTABLE 6V 1.1A 1812
pins: 1, 2

## Raspberry Pi
designator C?, comment Cap  value 100pF
Capacitor; Published: 8-Jun-2000; LatestRevisionDate: 17-Jul-2002; LatestRevisionNote: Re-released for DXP Platform.; PackageReference: RAD-0.3; Publisher: Altium Limited; PackageDescription: Radial Cap, Thru-Hole; 2 Leads; 0.3 in Pin Spacing
footprint RAD-0.3 (Radial Cap, Thru-Hole; 2 Leads; 0.3 in Pin Spacing)
simulation model CAP (Capacitor)
signal-integrity model Cap
pins: 1 +5V, 2 GND, 3 Infotainment Soft Reset , 4 CAN H, 5 CAN L

## REC6-1212SRW/R10/A
designator *
pins: +Vin 4 (power), +Vin 3 (power), +Vout 6 (out), -Vin 1 (power), -Vout 5 (out), NC 2 (power)

## RELAY SPDT FORM C Z3076-ND
designator *
footprint RELAY SPDT FORM C Z3076-ND (Z3076-ND)
pins: 1, 2 4, 4 3, 6 2, 8 5

## Relay SPST Midpack
designator *
pins: 1, 3, 4, 5, 6, 8
text: SPST NO

## Relay SPST NC
designator *

## Relay-3PDT
designator K?
ComponentLink1Description: Manufacturer Link; ComponentLink2Description: Datasheet
pins: 1, 2, 3, 4, 5, 6, 7, 8, 9, 10, 11
1 alternate drawing of the same symbol

## RES SMD 12 OHM 1% 2W 2512
designator R?, comment 12R  (value not drawn)
footprint RES SMD 12 OHM 1% 2W 2512
pins: 1, 2

## RGB LED
designator *
pins: B 3, G 2, GND 4, R 1

## RSO-2412SZ/H3
designator *
pins: 1 -Vin, 2 +Vin, 3 Ctrl, 5, 6 +Vout, 7 -Vout, 8

## RUW15SL 12C
designator *
pins: 1 EN, 4 -Vin, 5 +Vin, 7 +Vout, 8 GND

## Sense board
designator *

## Serial_Connector
designator *
pins: 2 Rx, 3 Tx, 5 GND

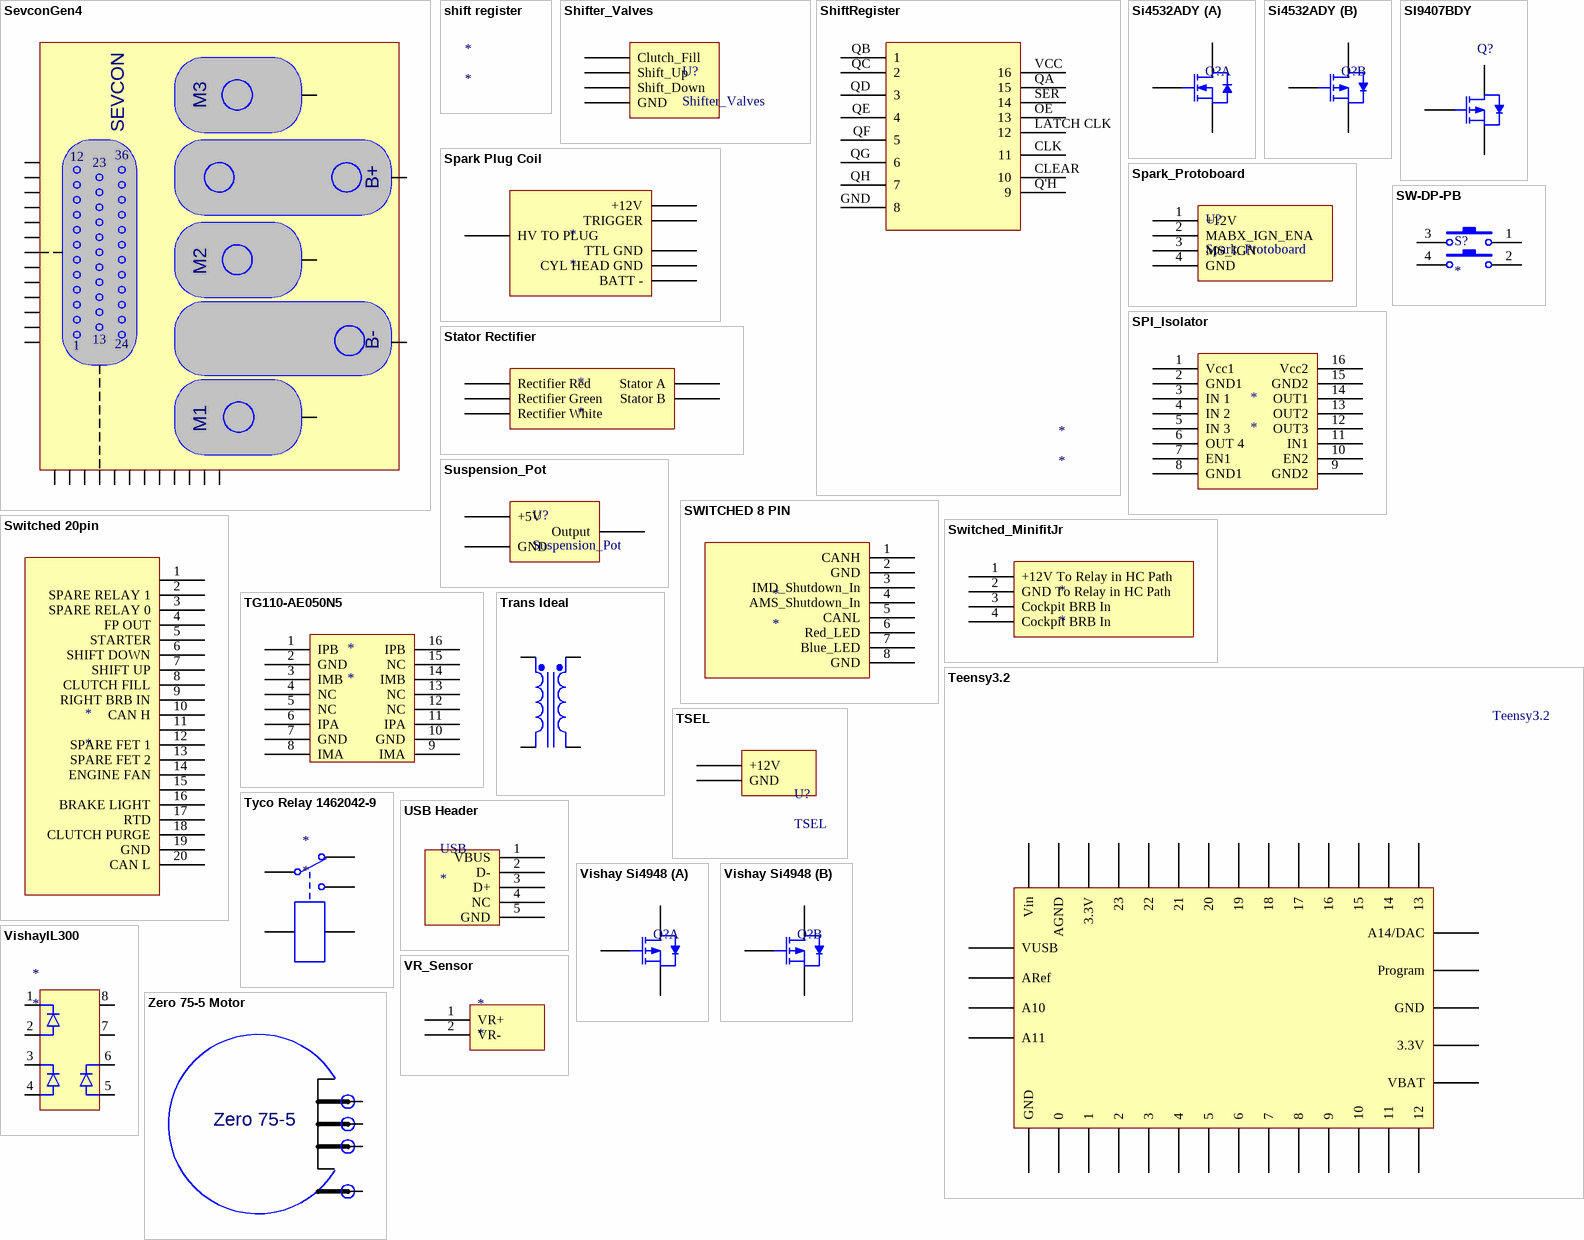
[diagram p4: symbols SevconGen4 to Zero 75-5 Motor]

## SevconGen4
designator Sevcon
pins: ?1, ?2, ?3, ?4, ?5, ?6, ?7, ?8, ?9, ?10, ?11, ?12, ?13, ?14, ?15, ?16, ?17, ?18, ?19, ?20, ?21, ?22, ?23, ?24, ?25, ?26, ?27, ?28, ?29, ?30
text: M3; SEVCON; 12; 36; 23; B+; M2; 13; 24; B-; 1; M1

## shift register
designator *

## Shifter_Valves
designator U?
pins: 2 Shift_Down, 3 Clutch_Fill, 4 GND, 5 Shift_Up

## ShiftRegister
designator *
pins: CLEAR 10, CLK 11, GND 8, LATCH CLK 12, OE 13, Q'H 9, QA 15, QB 1, QC 2, QD 3, QE 4, QF 5, QG 6, QH 7, SER 14, VCC 16

## Si4532ADY
designator Q?  (value not drawn)
Vishay  N and P Ch. 60V MOSFET
part A pins: 1 S1 "Source 1", 2 G1, 6 D1 "Pin 7 & 8 on part.  Pin 6 because of pad sharing."
part B pins: 3 S2 "Source 2", 4 G2 "Gate 2", 5 D2 "Pin 5 & 6 on part.  Pin 5 because of pad sharing."

## SI9407BDY
designator Q?  (value not drawn)
Vishay P-Channel 6V, 4.7A MOSFET
pins: 1 S, 4 G "Gate 2", 5 D "Pin 5 & 6 on part.  Pin 5 because of pad sharing."

## Spark Plug Coil
designator *
pins: 1 +12V, 2 TTL GND, 3 HV TO PLUG, 4 BATT -, 5 TRIGGER, 6 CYL HEAD GND

## Spark_Protoboard
designator U?
pins: 1 +12V, 2 MABX_IGN_ENA, 3 MS_IGN, 4 GND

## SPI_Isolator
designator *
pins: 1 Vcc1, 2 GND1, 3 IN 1, 4 IN 2, 5 IN 3, 6 OUT 4, 7 EN1, 8 GND1, 9 GND2, 10 EN2, 11 IN1, 12 OUT3, 13 OUT2, 14 OUT1, 15 GND2, 16 Vcc2

## Stator Rectifier
designator *
pins: 7 Stator A, 8 Stator B, 9 Rectifier Red, 10 Rectifier Green, 11 Rectifier White

## Suspension_Pot
designator U?
pins: 1 +5V, 2 Output, 3 GND

## SW-DP-PB
designator S?
pins: 1 Out, 2 Out, 3 In, 4 In

## SWITCHED 8 PIN
designator *
pins: 1 CANH, 2 GND, 3 IMD_Shutdown_In, 4 AMS_Shutdown_In, 5 CANL, 6 Red_LED, 7 Blue_LED, 8 GND

## Switched 20pin
designator *
pins: 1, 2 SPARE RELAY 1, 3 SPARE RELAY 0, 4 FP OUT, 5 STARTER, 6 SHIFT DOWN, 7 SHIFT UP, 8 CLUTCH FILL, 9 RIGHT BRB IN, 10 CAN H, 11, 12 SPARE FET 1, 13 SPARE FET 2, 14 ENGINE FAN, 15, 16 BRAKE LIGHT, 17 RTD, 18 CLUTCH PURGE, 19 GND, 20 CAN L

## Switched_MinifitJr
designator *
pins: 1 +12V To Relay in HC Path, 2 GND To Relay in HC Path, 3 Cockpit BRB In, 4 Cockpit BRB In

## Teensy3.2
designator Teensy3.2  (value not drawn)
Published: 8-Jun-2000; LatestRevisionDate: 17-Jul-2002; LatestRevisionNote: Re-released for DXP Platform.; PackageReference: RAD-0.3; Publisher: Altium Limited; PackageDescription: Radial Cap, Thru-Hole; 2 Leads; 0.3 in Pin Spacing
footprint Teensy3.2
pins: 0, 1, 2, 3, 4, 5, 6, 7, 8, 9, 10, 11, 12, 13, 14, 15, 16, 17, 18, 19, 20, 21, 22, 23, 24 3.3V, 25 AGND, 26 Vin, 27 VBAT, 28 3.3V, 29 GND, 30 Program, 31 A14/DAC, 32 VUSB, 33 ARef, 34 A10, 35 A11, 36 GND

## TG110-AE050N5
designator *
pins: 1 IPB, 2 GND, 3 IMB, 4 NC, 5 NC, 6 IPA, 7 GND, 8 IMA, 9 IMA, 10 GND, 11 IPA, 12 NC, 13 NC, 14 IMB, 15 NC, 16 IPB

## Trans Ideal
designator L3, comment Inductor
Code_IEC: 1005; Published: 8-Jun-2000; LatestRevisionDate: 29-May-2009; LatestRevisionNote: IPC-7351 Footprint Added.; PackageReference: 0402-A; Publisher: Altium Limited; PackageDescription: Chip Inductor; Code_JEITA: 0402
pins: 1, 2, 3, 4

## TSEL
designator U?
pins: 1 +12V, 2 GND

## Tyco Relay 1462042-9
designator *
pins: 1, 3, 5, 7, 8

## USB Header
designator USB
USB mini B
pins: 1 VBUS, 2 D-, 3 D+, 4 NC, 5 GND

## Vishay Si4948
designator Q?  (value not drawn)
Dual P-Channel
part A pins: 1 S1 "Source 1", 2 G1 "Gate 1", 6 D1 "Actual Part is Pins 7&8.  Pin 6 because of pad sharing."
part B pins: 3 S2 "Source 2", 4 G2 "Gate 2", 5 D2 "Actual Part is Pins 5&6.  Pin 5 because of pad sharing"

## VishayIL300
designator *
pins: 1, 2, 3, 4, 5, 6 (power), 7, 8

## VR_Sensor
designator *
pins: 1 VR+, 2 VR-

## Zero 75-5 Motor
designator ?
pins: ?1, ?2, ?3, ?4
text: Zero 75-5